# Altium schematic symbol library jlcpcb_2025_04_inductors_extended_1210.schlib: 422 symbols (part 2 of 8)
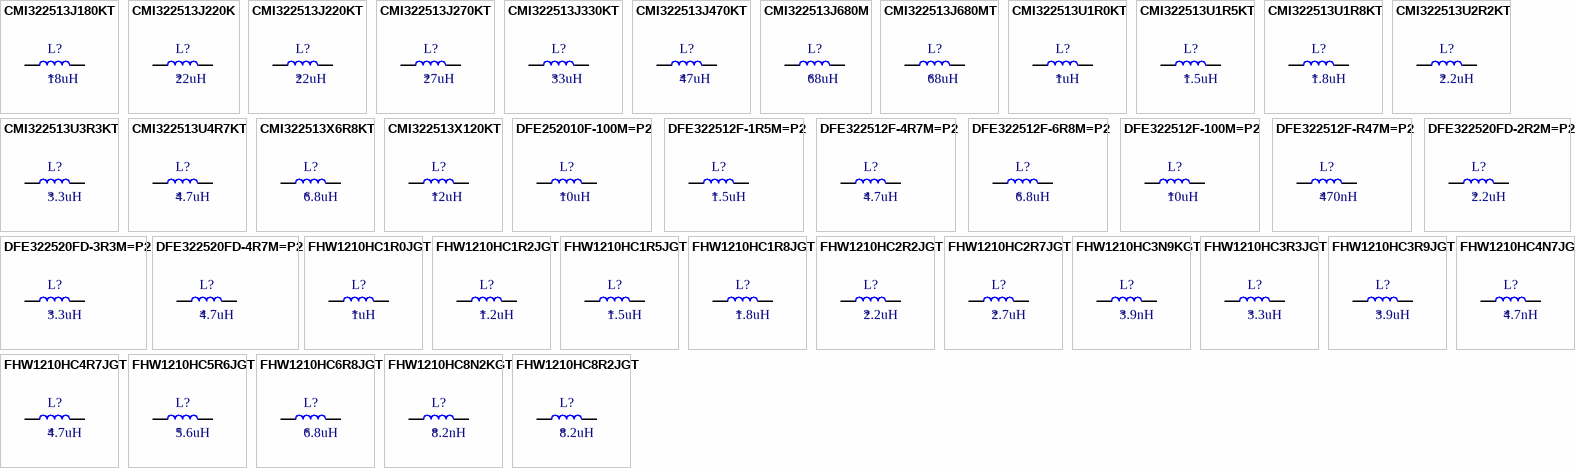
[diagram p11: symbols CMI322513J180KT to FHW1210HC8R2JGT]

## CMI322513X6R8KT
designator L?  Inductance: 6.8uH
Inductor, 6.8uH, ±10%, 600mΩ, 450mA, SMD 1210; Manufacturer: FH(Guangdong Fenghua Advanced Tech); Manufacturer Part Number: CMI322513X6R8KT; Self-Resonant Frequency: 20MHz; Q Factor: 35@4MHz; Package Size: 1210; JLCPCB Basic Part: No; JLCPCB Part Number: C394999; Supplier 1: LCSC; Category: Inductors; Supplier Part Number 1: C394999; Tolerance: ±10%; Rated Current: 450mA; DC Resistance: 600mΩ; RoHS: Yes; ComponentLink1Description: Datasheet; ComponentLink1URL: https://wmsc.lcsc.com/wmsc/upload/file/pdf/v2/lcsc/2302231030_FH--Guangdong-Fenghua-Advanced-Tech-CMI322513X6R8KT_C394999.pdf; ComponentLink2Description: JLCPCB Part URL; ComponentLink2URL: https://jlcpcb.com/partdetail/C394999; ComponentLink3Description: LCSC Part URL; ComponentLink3URL: https://lcsc.com/product-detail/Inductors-SMD_FH-Guangdong-Fenghua-Advanced-Tech-FH-Guangdong-Fenghua-Advanced-Tech-CMI322513X6R8KT_C394999.html
footprint IND-1210 (1210 (3225M) Inductor)
pins: 1, 2

## CMI322513X120KT
designator L?  Inductance: 12uH
Inductor, 12uH, ±10%, SMD 1210; Manufacturer: FH(Guangdong Fenghua Advanced Tech); Manufacturer Part Number: CMI322513X120KT; Package Size: 1210; JLCPCB Basic Part: No; JLCPCB Part Number: C394998; Supplier 1: LCSC; Category: Inductors; Supplier Part Number 1: C394998; Tolerance: ±10%; RoHS: Yes; ComponentLink1Description: Datasheet; ComponentLink1URL: https://wmsc.lcsc.com/wmsc/upload/file/pdf/v2/lcsc/2302231030_FH--Guangdong-Fenghua-Advanced-Tech-CMI322513X120KT_C394998.pdf; ComponentLink2Description: JLCPCB Part URL; ComponentLink2URL: https://jlcpcb.com/partdetail/C394998; ComponentLink3Description: LCSC Part URL; ComponentLink3URL: https://lcsc.com/product-detail/Inductors-SMD_FH-Guangdong-Fenghua-Advanced-Tech-FH-Guangdong-Fenghua-Advanced-Tech-CMI322513X120KT_C394998.html
footprint IND-1210 (1210 (3225M) Inductor)
pins: 1, 2

## DFE252010F-100M=P2
designator L?  Inductance: 10uH
Inductor, 10uH, ±20%, 600mΩ, 900mA, SMD 1210; Manufacturer: Murata Electronics; Manufacturer Part Number: DFE252010F-100M=P2; Saturation Current: 1.5A; Package Size: 1210; JLCPCB Basic Part: No; JLCPCB Part Number: C701155; Supplier 1: LCSC; Category: Inductors; Supplier Part Number 1: C701155; Tolerance: ±20%; Rated Current: 900mA; DC Resistance: 600mΩ; RoHS: Yes; ComponentLink1Description: Datasheet; ComponentLink1URL: https://wmsc.lcsc.com/wmsc/upload/file/pdf/v2/lcsc/2105241334_Murata-Electronics-DFE252010F-100M-P2_C701155.pdf; ComponentLink2Description: JLCPCB Part URL; ComponentLink2URL: https://jlcpcb.com/partdetail/C701155; ComponentLink3Description: LCSC Part URL; ComponentLink3URL: https://lcsc.com/product-detail/Inductors-SMD_Murata-Electronics-Murata-Electronics-DFE252010F-100M%3DP2_C701155.html
footprint IND-1210 (1210 (3225M) Inductor)
pins: 1, 2

## DFE322512F-1R5M=P2
designator L?  Inductance: 1.5uH
Inductor, 1.5uH, ±20%, 48mΩ, 3A, SMD 1210; Manufacturer: Murata Electronics; Manufacturer Part Number: DFE322512F-1R5M=P2; Saturation Current: 3.9A; Package Size: 1210; JLCPCB Basic Part: No; JLCPCB Part Number: C703084; Supplier 1: LCSC; Category: Inductors; Supplier Part Number 1: C703084; Tolerance: ±20%; Rated Current: 3A; DC Resistance: 48mΩ; RoHS: Yes; ComponentLink1Description: Datasheet; ComponentLink1URL: https://wmsc.lcsc.com/wmsc/upload/file/pdf/v2/lcsc/2308111612_Murata-Electronics-DFE322512F-1R5M-P2_C703084.pdf; ComponentLink2Description: JLCPCB Part URL; ComponentLink2URL: https://jlcpcb.com/partdetail/C703084; ComponentLink3Description: LCSC Part URL; ComponentLink3URL: https://lcsc.com/product-detail/Power-Inductors_Murata-Electronics-Murata-Electronics-DFE322512F-1R5M%3DP2_C703084.html
footprint IND-1210 (1210 (3225M) Inductor)
pins: 1, 2

## DFE322512F-4R7M=P2
designator L?  Inductance: 4.7uH
Inductor, 4.7uH, ±20%, 157mΩ, 1.6A, SMD 1210; Manufacturer: Murata Electronics; Manufacturer Part Number: DFE322512F-4R7M=P2; Saturation Current: 2.3A; Package Size: 1210; JLCPCB Basic Part: No; JLCPCB Part Number: C703083; Supplier 1: LCSC; Category: Inductors; Supplier Part Number 1: C703083; Tolerance: ±20%; Rated Current: 1.6A; DC Resistance: 157mΩ; RoHS: Yes; ComponentLink1Description: Datasheet; ComponentLink1URL: https://wmsc.lcsc.com/wmsc/upload/file/pdf/v2/lcsc/2308111612_Murata-Electronics-DFE322512F-4R7M-P2_C703083.pdf; ComponentLink2Description: JLCPCB Part URL; ComponentLink2URL: https://jlcpcb.com/partdetail/C703083; ComponentLink3Description: LCSC Part URL; ComponentLink3URL: https://lcsc.com/product-detail/Inductors-SMD_Murata-Electronics-Murata-Electronics-DFE322512F-4R7M%3DP2_C703083.html
footprint IND-1210 (1210 (3225M) Inductor)
pins: 1, 2

## DFE322512F-6R8M=P2
designator L?  Inductance: 6.8uH
Inductor, 6.8uH, ±20%, 220mΩ, 1.2A, SMD 1210; Manufacturer: Murata Electronics; Manufacturer Part Number: DFE322512F-6R8M=P2; Package Size: 1210; JLCPCB Basic Part: No; JLCPCB Part Number: C560045; Supplier 1: LCSC; Category: Inductors; Supplier Part Number 1: C560045; Tolerance: ±20%; Rated Current: 1.2A; DC Resistance: 220mΩ; RoHS: Yes; ComponentLink1Description: Datasheet; ComponentLink1URL: https://wmsc.lcsc.com/wmsc/upload/file/pdf/v2/lcsc/2304140030_Murata-Electronics-DFE322512F-6R8M-P2_C560045.pdf; ComponentLink2Description: JLCPCB Part URL; ComponentLink2URL: https://jlcpcb.com/partdetail/C560045; ComponentLink3Description: LCSC Part URL; ComponentLink3URL: https://lcsc.com/product-detail/Inductors-SMD_Murata-Electronics-Murata-Electronics-DFE322512F-6R8M%3DP2_C560045.html
footprint IND-1210 (1210 (3225M) Inductor)
pins: 1, 2

## DFE322512F-100M=P2
designator L?  Inductance: 10uH
Inductor, 10uH, ±20%, 324mΩ, 1.1A, SMD 1210; Manufacturer: Murata Electronics; Manufacturer Part Number: DFE322512F-100M=P2; Package Size: 1210; JLCPCB Basic Part: No; JLCPCB Part Number: C1333678; Supplier 1: LCSC; Category: Inductors; Supplier Part Number 1: C1333678; Tolerance: ±20%; Rated Current: 1.1A; DC Resistance: 324mΩ; RoHS: Yes; ComponentLink1Description: Datasheet; ComponentLink1URL: https://wmsc.lcsc.com/wmsc/upload/file/pdf/v2/lcsc/2304140030_Murata-Electronics-DFE322512F-100M-P2_C1333678.pdf; ComponentLink2Description: JLCPCB Part URL; ComponentLink2URL: https://jlcpcb.com/partdetail/C1333678; ComponentLink3Description: LCSC Part URL; ComponentLink3URL: https://lcsc.com/product-detail/Inductors-SMD_Murata-Electronics-Murata-Electronics-DFE322512F-100M%3DP2_C1333678.html
footprint IND-1210 (1210 (3225M) Inductor)
pins: 1, 2

## DFE322512F-R47M=P2
designator L?  Inductance: 470nH
Inductor, 470nH, ±20%, 23mΩ, 4.8A, SMD 1210; Manufacturer: Murata Electronics; Manufacturer Part Number: DFE322512F-R47M=P2; Package Size: 1210; JLCPCB Basic Part: No; JLCPCB Part Number: C1333683; Supplier 1: LCSC; Category: Inductors; Supplier Part Number 1: C1333683; Tolerance: ±20%; Rated Current: 4.8A; DC Resistance: 23mΩ; RoHS: Yes; ComponentLink1Description: Datasheet; ComponentLink1URL: https://wmsc.lcsc.com/wmsc/upload/file/pdf/v2/lcsc/2304140030_Murata-Electronics-DFE322512F-R47M-P2_C1333683.pdf; ComponentLink2Description: JLCPCB Part URL; ComponentLink2URL: https://jlcpcb.com/partdetail/C1333683; ComponentLink3Description: LCSC Part URL; ComponentLink3URL: https://lcsc.com/product-detail/Inductors-SMD_Murata-Electronics-Murata-Electronics-DFE322512F-R47M%3DP2_C1333683.html
footprint IND-1210 (1210 (3225M) Inductor)
pins: 1, 2

## DFE322520FD-2R2M=P2
designator L?  Inductance: 2.2uH
Inductor, 2.2uH, ±20%, 2.9A, SMD 1210; Manufacturer: Murata Electronics; Manufacturer Part Number: DFE322520FD-2R2M=P2; Saturation Current: 5A; Package Size: 1210; JLCPCB Basic Part: No; JLCPCB Part Number: C2045365; Supplier 1: LCSC; Category: Inductors; Supplier Part Number 1: C2045365; Tolerance: ±20%; Rated Current: 2.9A; RoHS: Yes; ComponentLink1Description: Datasheet; ComponentLink1URL: https://wmsc.lcsc.com/wmsc/upload/file/pdf/v2/lcsc/2401270505_Murata-Electronics-DFE322520FD-2R2M-P2_C2045365.pdf; ComponentLink2Description: JLCPCB Part URL; ComponentLink2URL: https://jlcpcb.com/partdetail/C2045365; ComponentLink3Description: LCSC Part URL; ComponentLink3URL: https://lcsc.com/product-detail/Inductors-SMD_Murata-Electronics-Murata-Electronics-DFE322520FD-2R2M%3DP2_C2045365.html
footprint IND-1210 (1210 (3225M) Inductor)
pins: 1, 2

## DFE322520FD-3R3M=P2
designator L?  Inductance: 3.3uH
Inductor, 3.3uH, ±20%, 2.3A, SMD 1210; Manufacturer: Murata Electronics; Manufacturer Part Number: DFE322520FD-3R3M=P2; Saturation Current: 4.2A; Package Size: 1210; JLCPCB Basic Part: No; JLCPCB Part Number: C2046640; Supplier 1: LCSC; Category: Inductors; Supplier Part Number 1: C2046640; Tolerance: ±20%; Rated Current: 2.3A; RoHS: Yes; ComponentLink1Description: Datasheet; ComponentLink1URL: https://wmsc.lcsc.com/wmsc/upload/file/pdf/v2/lcsc/2401270505_Murata-Electronics-DFE322520FD-3R3M-P2_C2046640.pdf; ComponentLink2Description: JLCPCB Part URL; ComponentLink2URL: https://jlcpcb.com/partdetail/C2046640; ComponentLink3Description: LCSC Part URL; ComponentLink3URL: https://lcsc.com/product-detail/Inductors-SMD_Murata-Electronics-Murata-Electronics-DFE322520FD-3R3M%3DP2_C2046640.html
footprint IND-1210 (1210 (3225M) Inductor)
pins: 1, 2

## DFE322520FD-4R7M=P2
designator L?  Inductance: 4.7uH
Inductor, 4.7uH, ±20%, 2A, SMD 1210; Manufacturer: Murata Electronics; Manufacturer Part Number: DFE322520FD-4R7M=P2; Saturation Current: 3.4A; Package Size: 1210; JLCPCB Basic Part: No; JLCPCB Part Number: C2045343; Supplier 1: LCSC; Category: Inductors; Supplier Part Number 1: C2045343; Tolerance: ±20%; Rated Current: 2A; RoHS: Yes; ComponentLink1Description: Datasheet; ComponentLink1URL: https://wmsc.lcsc.com/wmsc/upload/file/pdf/v2/lcsc/2308111715_Murata-Electronics-DFE322520FD-4R7M-P2_C2045343.pdf; ComponentLink2Description: JLCPCB Part URL; ComponentLink2URL: https://jlcpcb.com/partdetail/C2045343; ComponentLink3Description: LCSC Part URL; ComponentLink3URL: https://lcsc.com/product-detail/Inductors-SMD_Murata-Electronics-Murata-Electronics-DFE322520FD-4R7M%3DP2_C2045343.html
footprint IND-1210 (1210 (3225M) Inductor)
pins: 1, 2

## FHW1210HC1R0JGT
designator L?  Inductance: 1uH
Inductor, 1uH, ±5%, 1.85Ω, 320mA, SMD 1210; Manufacturer: FH(Guangdong Fenghua Advanced Tech); Manufacturer Part Number: FHW1210HC1R0JGT; Self-Resonant Frequency: 340MHz; Q Factor: 45@150MHz; Package Size: 1210; JLCPCB Basic Part: No; JLCPCB Part Number: C318051; Supplier 1: LCSC; Category: Inductors; Supplier Part Number 1: C318051; Tolerance: ±5%; Rated Current: 320mA; DC Resistance: 1.85Ω; RoHS: Yes; ComponentLink1Description: Datasheet; ComponentLink1URL: https://wmsc.lcsc.com/wmsc/upload/file/pdf/v2/lcsc/2302231208_FH--Guangdong-Fenghua-Advanced-Tech-FHW1210HC1R0JGT_C318051.pdf; ComponentLink2Description: JLCPCB Part URL; ComponentLink2URL: https://jlcpcb.com/partdetail/C318051; ComponentLink3Description: LCSC Part URL; ComponentLink3URL: https://lcsc.com/product-detail/Inductors-SMD_FH-Guangdong-Fenghua-Advanced-Tech-FH-Guangdong-Fenghua-Advanced-Tech-FHW1210HC1R0JGT_C318051.html
footprint IND-1210 (1210 (3225M) Inductor)
pins: 1, 2

## FHW1210HC1R2JGT
designator L?  Inductance: 1.2uH
Inductor, 1.2uH, ±5%, 1.87Ω, 300mA, SMD 1210; Manufacturer: FH(Guangdong Fenghua Advanced Tech); Manufacturer Part Number: FHW1210HC1R2JGT; Self-Resonant Frequency: 220MHz; Q Factor: 35@150MHz; Package Size: 1210; JLCPCB Basic Part: No; JLCPCB Part Number: C318052; Supplier 1: LCSC; Category: Inductors; Supplier Part Number 1: C318052; Tolerance: ±5%; Rated Current: 300mA; DC Resistance: 1.87Ω; RoHS: Yes; ComponentLink1Description: Datasheet; ComponentLink1URL: https://wmsc.lcsc.com/wmsc/upload/file/pdf/v2/lcsc/2302231208_FH--Guangdong-Fenghua-Advanced-Tech-FHW1210HC1R2JGT_C318052.pdf; ComponentLink2Description: JLCPCB Part URL; ComponentLink2URL: https://jlcpcb.com/partdetail/C318052; ComponentLink3Description: LCSC Part URL; ComponentLink3URL: https://lcsc.com/product-detail/Inductors-SMD_FH-Guangdong-Fenghua-Advanced-Tech-FH-Guangdong-Fenghua-Advanced-Tech-FHW1210HC1R2JGT_C318052.html
footprint IND-1210 (1210 (3225M) Inductor)
pins: 1, 2

## FHW1210HC1R5JGT
designator L?  Inductance: 1.5uH
Inductor, 1.5uH, ±5%, 1.95Ω, 310mA, SMD 1210; Manufacturer: FH(Guangdong Fenghua Advanced Tech); Manufacturer Part Number: FHW1210HC1R5JGT; Self-Resonant Frequency: 160MHz; Q Factor: 30@50MHz; Package Size: 1210; JLCPCB Basic Part: No; JLCPCB Part Number: C318053; Supplier 1: LCSC; Category: Inductors; Supplier Part Number 1: C318053; Tolerance: ±5%; Rated Current: 310mA; DC Resistance: 1.95Ω; RoHS: Yes; ComponentLink1Description: Datasheet; ComponentLink1URL: https://wmsc.lcsc.com/wmsc/upload/file/pdf/v2/lcsc/2302231208_FH--Guangdong-Fenghua-Advanced-Tech-FHW1210HC1R5JGT_C318053.pdf; ComponentLink2Description: JLCPCB Part URL; ComponentLink2URL: https://jlcpcb.com/partdetail/C318053; ComponentLink3Description: LCSC Part URL; ComponentLink3URL: https://lcsc.com/product-detail/Inductors-SMD_FH-Guangdong-Fenghua-Advanced-Tech-FH-Guangdong-Fenghua-Advanced-Tech-FHW1210HC1R5JGT_C318053.html
footprint IND-1210 (1210 (3225M) Inductor)
pins: 1, 2

## FHW1210HC1R8JGT
designator L?  Inductance: 1.8uH
Inductor, 1.8uH, ±5%, 2.25Ω, 310mA, SMD 1210; Manufacturer: FH(Guangdong Fenghua Advanced Tech); Manufacturer Part Number: FHW1210HC1R8JGT; Self-Resonant Frequency: 160MHz; Q Factor: 30@50MHz; Package Size: 1210; JLCPCB Basic Part: No; JLCPCB Part Number: C318054; Supplier 1: LCSC; Category: Inductors; Supplier Part Number 1: C318054; Tolerance: ±5%; Rated Current: 310mA; DC Resistance: 2.25Ω; RoHS: Yes; ComponentLink1Description: Datasheet; ComponentLink1URL: https://wmsc.lcsc.com/wmsc/upload/file/pdf/v2/lcsc/2302231208_FH--Guangdong-Fenghua-Advanced-Tech-FHW1210HC1R8JGT_C318054.pdf; ComponentLink2Description: JLCPCB Part URL; ComponentLink2URL: https://jlcpcb.com/partdetail/C318054; ComponentLink3Description: LCSC Part URL; ComponentLink3URL: https://lcsc.com/product-detail/Inductors-SMD_FH-Guangdong-Fenghua-Advanced-Tech-FH-Guangdong-Fenghua-Advanced-Tech-FHW1210HC1R8JGT_C318054.html
footprint IND-1210 (1210 (3225M) Inductor)
pins: 1, 2

## FHW1210HC2R2JGT
designator L?  Inductance: 2.2uH
Inductor, 2.2uH, ±5%, 2.41Ω, 310mA, SMD 1210; Manufacturer: FH(Guangdong Fenghua Advanced Tech); Manufacturer Part Number: FHW1210HC2R2JGT; Self-Resonant Frequency: 110MHz; Q Factor: 30@50MHz; Package Size: 1210; JLCPCB Basic Part: No; JLCPCB Part Number: C318055; Supplier 1: LCSC; Category: Inductors; Supplier Part Number 1: C318055; Tolerance: ±5%; Rated Current: 310mA; DC Resistance: 2.41Ω; RoHS: Yes; ComponentLink1Description: Datasheet; ComponentLink1URL: https://wmsc.lcsc.com/wmsc/upload/file/pdf/v2/lcsc/2302231208_FH--Guangdong-Fenghua-Advanced-Tech-FHW1210HC2R2JGT_C318055.pdf; ComponentLink2Description: JLCPCB Part URL; ComponentLink2URL: https://jlcpcb.com/partdetail/C318055; ComponentLink3Description: LCSC Part URL; ComponentLink3URL: https://lcsc.com/product-detail/Inductors-SMD_FH-Guangdong-Fenghua-Advanced-Tech-FH-Guangdong-Fenghua-Advanced-Tech-FHW1210HC2R2JGT_C318055.html
footprint IND-1210 (1210 (3225M) Inductor)
pins: 1, 2

## FHW1210HC2R7JGT
designator L?  Inductance: 2.7uH
Inductor, 2.7uH, ±5%, 2.85Ω, 300mA, SMD 1210; Manufacturer: FH(Guangdong Fenghua Advanced Tech); Manufacturer Part Number: FHW1210HC2R7JGT; Self-Resonant Frequency: 100MHz; Q Factor: 25@25MHz; Package Size: 1210; JLCPCB Basic Part: No; JLCPCB Part Number: C318056; Supplier 1: LCSC; Category: Inductors; Supplier Part Number 1: C318056; Tolerance: ±5%; Rated Current: 300mA; DC Resistance: 2.85Ω; RoHS: Yes; ComponentLink1Description: Datasheet; ComponentLink1URL: https://wmsc.lcsc.com/wmsc/upload/file/pdf/v2/lcsc/2302231208_FH--Guangdong-Fenghua-Advanced-Tech-FHW1210HC2R7JGT_C318056.pdf; ComponentLink2Description: JLCPCB Part URL; ComponentLink2URL: https://jlcpcb.com/partdetail/C318056; ComponentLink3Description: LCSC Part URL; ComponentLink3URL: https://lcsc.com/product-detail/Inductors-SMD_FH-Guangdong-Fenghua-Advanced-Tech-FH-Guangdong-Fenghua-Advanced-Tech-FHW1210HC2R7JGT_C318056.html
footprint IND-1210 (1210 (3225M) Inductor)
pins: 1, 2

## FHW1210HC3N9KGT
designator L?  Inductance: 3.9nH
Inductor, 3.9nH, ±10%, 50mΩ, 1A, SMD 1210; Manufacturer: FH(Guangdong Fenghua Advanced Tech); Manufacturer Part Number: FHW1210HC3N9KGT; Self-Resonant Frequency: 6GHz; Q Factor: 30@300MHz; Package Size: 1210; JLCPCB Basic Part: No; JLCPCB Part Number: C318029; Supplier 1: LCSC; Category: Inductors; Supplier Part Number 1: C318029; Tolerance: ±10%; Rated Current: 1A; DC Resistance: 50mΩ; RoHS: Yes; ComponentLink1Description: Datasheet; ComponentLink1URL: https://wmsc.lcsc.com/wmsc/upload/file/pdf/v2/lcsc/2302231030_FH--Guangdong-Fenghua-Advanced-Tech-FHW1210HC3N9KGT_C318029.pdf; ComponentLink2Description: JLCPCB Part URL; ComponentLink2URL: https://jlcpcb.com/partdetail/C318029; ComponentLink3Description: LCSC Part URL; ComponentLink3URL: https://lcsc.com/product-detail/Inductors-SMD_FH-Guangdong-Fenghua-Advanced-Tech-FH-Guangdong-Fenghua-Advanced-Tech-FHW1210HC3N9KGT_C318029.html
footprint IND-1210 (1210 (3225M) Inductor)
pins: 1, 2

## FHW1210HC3R3JGT
designator L?  Inductance: 3.3uH
Inductor, 3.3uH, ±5%, 3.12Ω, 300mA, SMD 1210; Manufacturer: FH(Guangdong Fenghua Advanced Tech); Manufacturer Part Number: FHW1210HC3R3JGT; Self-Resonant Frequency: 85MHz; Q Factor: 20@25MHz; Package Size: 1210; JLCPCB Basic Part: No; JLCPCB Part Number: C318057; Supplier 1: LCSC; Category: Inductors; Supplier Part Number 1: C318057; Tolerance: ±5%; Rated Current: 300mA; DC Resistance: 3.12Ω; RoHS: Yes; ComponentLink1Description: Datasheet; ComponentLink1URL: https://wmsc.lcsc.com/wmsc/upload/file/pdf/v2/lcsc/2302231208_FH--Guangdong-Fenghua-Advanced-Tech-FHW1210HC3R3JGT_C318057.pdf; ComponentLink2Description: JLCPCB Part URL; ComponentLink2URL: https://jlcpcb.com/partdetail/C318057; ComponentLink3Description: LCSC Part URL; ComponentLink3URL: https://lcsc.com/product-detail/Inductors-SMD_FH-Guangdong-Fenghua-Advanced-Tech-FH-Guangdong-Fenghua-Advanced-Tech-FHW1210HC3R3JGT_C318057.html
footprint IND-1210 (1210 (3225M) Inductor)
pins: 1, 2

## FHW1210HC3R9JGT
designator L?  Inductance: 3.9uH
Inductor, 3.9uH, ±5%, 3.6Ω, 290mA, SMD 1210; Manufacturer: FH(Guangdong Fenghua Advanced Tech); Manufacturer Part Number: FHW1210HC3R9JGT; Self-Resonant Frequency: 80MHz; Q Factor: 20@25MHz; Package Size: 1210; JLCPCB Basic Part: No; JLCPCB Part Number: C318058; Supplier 1: LCSC; Category: Inductors; Supplier Part Number 1: C318058; Tolerance: ±5%; Rated Current: 290mA; DC Resistance: 3.6Ω; RoHS: Yes; ComponentLink1Description: Datasheet; ComponentLink1URL: https://wmsc.lcsc.com/wmsc/upload/file/pdf/v2/lcsc/2302231208_FH--Guangdong-Fenghua-Advanced-Tech-FHW1210HC3R9JGT_C318058.pdf; ComponentLink2Description: JLCPCB Part URL; ComponentLink2URL: https://jlcpcb.com/partdetail/C318058; ComponentLink3Description: LCSC Part URL; ComponentLink3URL: https://lcsc.com/product-detail/Inductors-SMD_FH-Guangdong-Fenghua-Advanced-Tech-FH-Guangdong-Fenghua-Advanced-Tech-FHW1210HC3R9JGT_C318058.html
footprint IND-1210 (1210 (3225M) Inductor)
pins: 1, 2

## FHW1210HC4N7JGT
designator L?  Inductance: 4.7nH
Inductor, 4.7nH, ±5%, 65mΩ, 1A, SMD 1210; Manufacturer: FH(Guangdong Fenghua Advanced Tech); Manufacturer Part Number: FHW1210HC4N7JGT; Self-Resonant Frequency: 5.8GHz; Q Factor: 30@300MHz; Package Size: 1210; JLCPCB Basic Part: No; JLCPCB Part Number: C318030; Supplier 1: LCSC; Category: Inductors; Supplier Part Number 1: C318030; Tolerance: ±5%; Rated Current: 1A; DC Resistance: 65mΩ; RoHS: Yes; ComponentLink1Description: Datasheet; ComponentLink1URL: https://wmsc.lcsc.com/wmsc/upload/file/pdf/v2/lcsc/2302231208_FH--Guangdong-Fenghua-Advanced-Tech-FHW1210HC4N7JGT_C318030.pdf; ComponentLink2Description: JLCPCB Part URL; ComponentLink2URL: https://jlcpcb.com/partdetail/C318030; ComponentLink3Description: LCSC Part URL; ComponentLink3URL: https://lcsc.com/product-detail/Inductors-SMD_FH-Guangdong-Fenghua-Advanced-Tech-FH-Guangdong-Fenghua-Advanced-Tech-FHW1210HC4N7JGT_C318030.html
footprint IND-1210 (1210 (3225M) Inductor)
pins: 1, 2

## FHW1210HC4R7JGT
designator L?  Inductance: 4.7uH
Inductor, 4.7uH, ±5%, 4Ω, 280mA, SMD 1210; Manufacturer: FH(Guangdong Fenghua Advanced Tech); Manufacturer Part Number: FHW1210HC4R7JGT; Self-Resonant Frequency: 60MHz; Q Factor: 16@25MHz; Package Size: 1210; JLCPCB Basic Part: No; JLCPCB Part Number: C318059; Supplier 1: LCSC; Category: Inductors; Supplier Part Number 1: C318059; Tolerance: ±5%; Rated Current: 280mA; DC Resistance: 4Ω; RoHS: Yes; ComponentLink1Description: Datasheet; ComponentLink1URL: https://wmsc.lcsc.com/wmsc/upload/file/pdf/v2/lcsc/2302231208_FH--Guangdong-Fenghua-Advanced-Tech-FHW1210HC4R7JGT_C318059.pdf; ComponentLink2Description: JLCPCB Part URL; ComponentLink2URL: https://jlcpcb.com/partdetail/C318059; ComponentLink3Description: LCSC Part URL; ComponentLink3URL: https://lcsc.com/product-detail/Inductors-SMD_FH-Guangdong-Fenghua-Advanced-Tech-FH-Guangdong-Fenghua-Advanced-Tech-FHW1210HC4R7JGT_C318059.html
footprint IND-1210 (1210 (3225M) Inductor)
pins: 1, 2

## FHW1210HC5R6JGT
designator L?  Inductance: 5.6uH
Inductor, 5.6uH, ±5%, 5Ω, 250mA, SMD 1210; Manufacturer: FH(Guangdong Fenghua Advanced Tech); Manufacturer Part Number: FHW1210HC5R6JGT; Self-Resonant Frequency: 60MHz; Q Factor: 20@7.9MHz; Package Size: 1210; JLCPCB Basic Part: No; JLCPCB Part Number: C318060; Supplier 1: LCSC; Category: Inductors; Supplier Part Number 1: C318060; Tolerance: ±5%; Rated Current: 250mA; DC Resistance: 5Ω; RoHS: Yes; ComponentLink1Description: Datasheet; ComponentLink1URL: https://wmsc.lcsc.com/wmsc/upload/file/pdf/v2/lcsc/2302231208_FH--Guangdong-Fenghua-Advanced-Tech-FHW1210HC5R6JGT_C318060.pdf; ComponentLink2Description: JLCPCB Part URL; ComponentLink2URL: https://jlcpcb.com/partdetail/C318060; ComponentLink3Description: LCSC Part URL; ComponentLink3URL: https://lcsc.com/product-detail/Inductors-SMD_FH-Guangdong-Fenghua-Advanced-Tech-FH-Guangdong-Fenghua-Advanced-Tech-FHW1210HC5R6JGT_C318060.html
footprint IND-1210 (1210 (3225M) Inductor)
pins: 1, 2

## FHW1210HC6R8JGT
designator L?  Inductance: 6.8uH
Inductor, 6.8uH, ±5%, 8Ω, 230mA, SMD 1210; Manufacturer: FH(Guangdong Fenghua Advanced Tech); Manufacturer Part Number: FHW1210HC6R8JGT; Self-Resonant Frequency: 55MHz; Q Factor: 20@7.9MHz; Package Size: 1210; JLCPCB Basic Part: No; JLCPCB Part Number: C318061; Supplier 1: LCSC; Category: Inductors; Supplier Part Number 1: C318061; Tolerance: ±5%; Rated Current: 230mA; DC Resistance: 8Ω; RoHS: Yes; ComponentLink1Description: Datasheet; ComponentLink1URL: https://wmsc.lcsc.com/wmsc/upload/file/pdf/v2/lcsc/2302231208_FH--Guangdong-Fenghua-Advanced-Tech-FHW1210HC6R8JGT_C318061.pdf; ComponentLink2Description: JLCPCB Part URL; ComponentLink2URL: https://jlcpcb.com/partdetail/C318061; ComponentLink3Description: LCSC Part URL; ComponentLink3URL: https://lcsc.com/product-detail/Inductors-SMD_FH-Guangdong-Fenghua-Advanced-Tech-FH-Guangdong-Fenghua-Advanced-Tech-FHW1210HC6R8JGT_C318061.html
footprint IND-1210 (1210 (3225M) Inductor)
pins: 1, 2

## FHW1210HC8N2KGT
designator L?  Inductance: 8.2nH
Inductor, 8.2nH, ±10%, 70mΩ, 1A, SMD 1210; Manufacturer: FH(Guangdong Fenghua Advanced Tech); Manufacturer Part Number: FHW1210HC8N2KGT; Self-Resonant Frequency: 5.5GHz; Q Factor: 30@300MHz; Package Size: 1210; JLCPCB Basic Part: No; JLCPCB Part Number: C318031; Supplier 1: LCSC; Category: Inductors; Supplier Part Number 1: C318031; Tolerance: ±10%; Rated Current: 1A; DC Resistance: 70mΩ; RoHS: Yes; ComponentLink1Description: Datasheet; ComponentLink1URL: https://wmsc.lcsc.com/wmsc/upload/file/pdf/v2/lcsc/2302231208_FH--Guangdong-Fenghua-Advanced-Tech-FHW1210HC8N2KGT_C318031.pdf; ComponentLink2Description: JLCPCB Part URL; ComponentLink2URL: https://jlcpcb.com/partdetail/C318031; ComponentLink3Description: LCSC Part URL; ComponentLink3URL: https://lcsc.com/product-detail/Inductors-SMD_FH-Guangdong-Fenghua-Advanced-Tech-FH-Guangdong-Fenghua-Advanced-Tech-FHW1210HC8N2KGT_C318031.html
footprint IND-1210 (1210 (3225M) Inductor)
pins: 1, 2

## FHW1210HC8R2JGT
designator L?  Inductance: 8.2uH
Inductor, 8.2uH, ±5%, 8.6Ω, 170mA, SMD 1210; Manufacturer: FH(Guangdong Fenghua Advanced Tech); Manufacturer Part Number: FHW1210HC8R2JGT; Self-Resonant Frequency: 50MHz; Q Factor: 20@7.9MHz; Package Size: 1210; JLCPCB Basic Part: No; JLCPCB Part Number: C318062; Supplier 1: LCSC; Category: Inductors; Supplier Part Number 1: C318062; Tolerance: ±5%; Rated Current: 170mA; DC Resistance: 8.6Ω; RoHS: Yes; ComponentLink1Description: Datasheet; ComponentLink1URL: https://wmsc.lcsc.com/wmsc/upload/file/pdf/v2/lcsc/2302231208_FH--Guangdong-Fenghua-Advanced-Tech-FHW1210HC8R2JGT_C318062.pdf; ComponentLink2Description: JLCPCB Part URL; ComponentLink2URL: https://jlcpcb.com/partdetail/C318062; ComponentLink3Description: LCSC Part URL; ComponentLink3URL: https://lcsc.com/product-detail/Inductors-SMD_FH-Guangdong-Fenghua-Advanced-Tech-FH-Guangdong-Fenghua-Advanced-Tech-FHW1210HC8R2JGT_C318062.html
footprint IND-1210 (1210 (3225M) Inductor)
pins: 1, 2

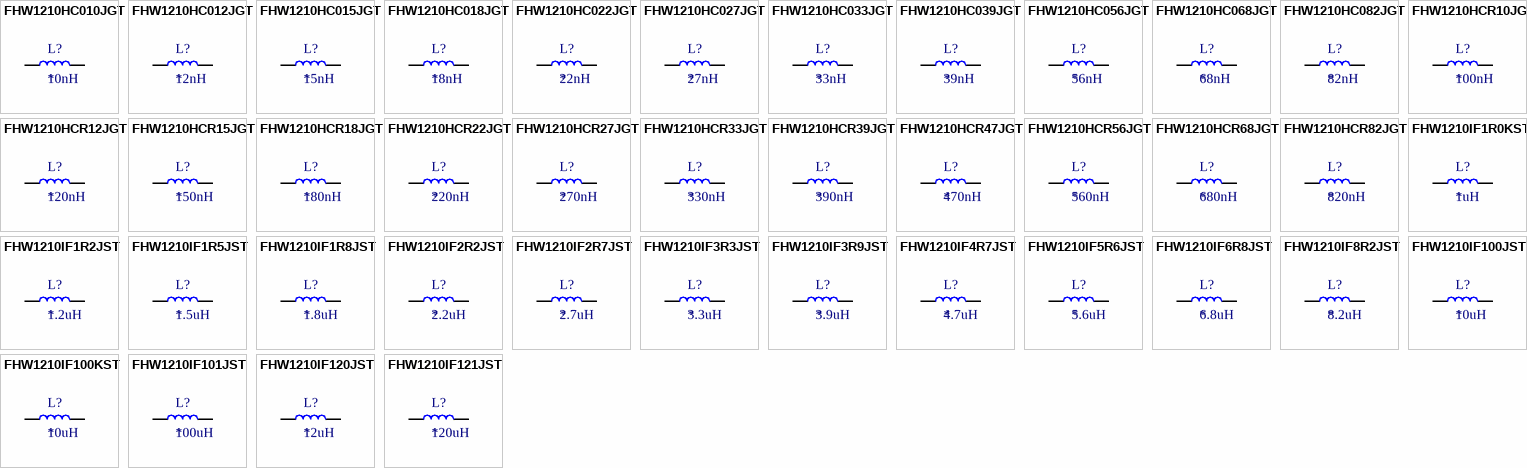
[diagram p2: symbols FHW1210HC010JGT to FHW1210IF121JST]

## FHW1210HC010JGT
designator L?  Inductance: 10nH
Inductor, 10nH, ±5%, 80mΩ, 1A, SMD 1210; Manufacturer: FH(Guangdong Fenghua Advanced Tech); Manufacturer Part Number: FHW1210HC010JGT; Self-Resonant Frequency: 4GHz; Q Factor: 40@300MHz; Package Size: 1210; JLCPCB Basic Part: No; JLCPCB Part Number: C318032; Supplier 1: LCSC; Category: Inductors; Supplier Part Number 1: C318032; Tolerance: ±5%; Rated Current: 1A; DC Resistance: 80mΩ; RoHS: Yes; ComponentLink1Description: Datasheet; ComponentLink1URL: https://wmsc.lcsc.com/wmsc/upload/file/pdf/v2/lcsc/2302231208_FH--Guangdong-Fenghua-Advanced-Tech-FHW1210HC010JGT_C318032.pdf; ComponentLink2Description: JLCPCB Part URL; ComponentLink2URL: https://jlcpcb.com/partdetail/C318032; ComponentLink3Description: LCSC Part URL; ComponentLink3URL: https://lcsc.com/product-detail/Inductors-SMD_FH-Guangdong-Fenghua-Advanced-Tech-FH-Guangdong-Fenghua-Advanced-Tech-FHW1210HC010JGT_C318032.html
footprint IND-1210 (1210 (3225M) Inductor)
pins: 1, 2

## FHW1210HC012JGT
designator L?  Inductance: 12nH
Inductor, 12nH, ±5%, 80mΩ, 1A, SMD 1210; Manufacturer: FH(Guangdong Fenghua Advanced Tech); Manufacturer Part Number: FHW1210HC012JGT; Self-Resonant Frequency: 3.2GHz; Q Factor: 40@300MHz; Package Size: 1210; JLCPCB Basic Part: No; JLCPCB Part Number: C318033; Supplier 1: LCSC; Category: Inductors; Supplier Part Number 1: C318033; Tolerance: ±5%; Rated Current: 1A; DC Resistance: 80mΩ; RoHS: Yes; ComponentLink1Description: Datasheet; ComponentLink1URL: https://wmsc.lcsc.com/wmsc/upload/file/pdf/v2/lcsc/2302231208_FH--Guangdong-Fenghua-Advanced-Tech-FHW1210HC012JGT_C318033.pdf; ComponentLink2Description: JLCPCB Part URL; ComponentLink2URL: https://jlcpcb.com/partdetail/C318033; ComponentLink3Description: LCSC Part URL; ComponentLink3URL: https://lcsc.com/product-detail/Inductors-SMD_FH-Guangdong-Fenghua-Advanced-Tech-FH-Guangdong-Fenghua-Advanced-Tech-FHW1210HC012JGT_C318033.html
footprint IND-1210 (1210 (3225M) Inductor)
pins: 1, 2

## FHW1210HC015JGT
designator L?  Inductance: 15nH
Inductor, 15nH, ±5%, 100mΩ, 1A, SMD 1210; Manufacturer: FH(Guangdong Fenghua Advanced Tech); Manufacturer Part Number: FHW1210HC015JGT; Self-Resonant Frequency: 3.2GHz; Q Factor: 40@300MHz; Package Size: 1210; JLCPCB Basic Part: No; JLCPCB Part Number: C318034; Supplier 1: LCSC; Category: Inductors; Supplier Part Number 1: C318034; Tolerance: ±5%; Rated Current: 1A; DC Resistance: 100mΩ; RoHS: Yes; ComponentLink1Description: Datasheet; ComponentLink1URL: https://wmsc.lcsc.com/wmsc/upload/file/pdf/v2/lcsc/2302231208_FH--Guangdong-Fenghua-Advanced-Tech-FHW1210HC015JGT_C318034.pdf; ComponentLink2Description: JLCPCB Part URL; ComponentLink2URL: https://jlcpcb.com/partdetail/C318034; ComponentLink3Description: LCSC Part URL; ComponentLink3URL: https://lcsc.com/product-detail/Inductors-SMD_FH-Guangdong-Fenghua-Advanced-Tech-FH-Guangdong-Fenghua-Advanced-Tech-FHW1210HC015JGT_C318034.html
footprint IND-1210 (1210 (3225M) Inductor)
pins: 1, 2

## FHW1210HC018JGT
designator L?  Inductance: 18nH
Inductor, 18nH, ±5%, 100mΩ, 1A, SMD 1210; Manufacturer: FH(Guangdong Fenghua Advanced Tech); Manufacturer Part Number: FHW1210HC018JGT; Self-Resonant Frequency: 2.8GHz; Q Factor: 50@300MHz; Package Size: 1210; JLCPCB Basic Part: No; JLCPCB Part Number: C318035; Supplier 1: LCSC; Category: Inductors; Supplier Part Number 1: C318035; Tolerance: ±5%; Rated Current: 1A; DC Resistance: 100mΩ; RoHS: Yes; ComponentLink1Description: Datasheet; ComponentLink1URL: https://wmsc.lcsc.com/wmsc/upload/file/pdf/v2/lcsc/2302231208_FH--Guangdong-Fenghua-Advanced-Tech-FHW1210HC018JGT_C318035.pdf; ComponentLink2Description: JLCPCB Part URL; ComponentLink2URL: https://jlcpcb.com/partdetail/C318035; ComponentLink3Description: LCSC Part URL; ComponentLink3URL: https://lcsc.com/product-detail/Inductors-SMD_FH-Guangdong-Fenghua-Advanced-Tech-FH-Guangdong-Fenghua-Advanced-Tech-FHW1210HC018JGT_C318035.html
footprint IND-1210 (1210 (3225M) Inductor)
pins: 1, 2

## FHW1210HC022JGT
designator L?  Inductance: 22nH
Inductor, 22nH, ±5%, 100mΩ, 1A, SMD 1210; Manufacturer: FH(Guangdong Fenghua Advanced Tech); Manufacturer Part Number: FHW1210HC022JGT; Self-Resonant Frequency: 2GHz; Q Factor: 50@300MHz; Package Size: 1210; JLCPCB Basic Part: No; JLCPCB Part Number: C75649; Supplier 1: LCSC; Category: Inductors; Supplier Part Number 1: C75649; Tolerance: ±5%; Rated Current: 1A; DC Resistance: 100mΩ; RoHS: Yes; ComponentLink1Description: Datasheet; ComponentLink1URL: https://wmsc.lcsc.com/wmsc/upload/file/pdf/v2/lcsc/2302231101_FH--Guangdong-Fenghua-Advanced-Tech-FHW1210HC022JGT_C75649.pdf; ComponentLink2Description: JLCPCB Part URL; ComponentLink2URL: https://jlcpcb.com/partdetail/C75649; ComponentLink3Description: LCSC Part URL; ComponentLink3URL: https://lcsc.com/product-detail/Inductors-SMD_FH-Guangdong-Fenghua-Advanced-Tech-FH-Guangdong-Fenghua-Advanced-Tech-FHW1210HC022JGT_C75649.html
footprint IND-1210 (1210 (3225M) Inductor)
pins: 1, 2

## FHW1210HC027JGT
designator L?  Inductance: 27nH
Inductor, 27nH, ±5%, 110mΩ, 1A, SMD 1210; Manufacturer: FH(Guangdong Fenghua Advanced Tech); Manufacturer Part Number: FHW1210HC027JGT; Self-Resonant Frequency: 1.8GHz; Q Factor: 50@300MHz; Package Size: 1210; JLCPCB Basic Part: No; JLCPCB Part Number: C318036; Supplier 1: LCSC; Category: Inductors; Supplier Part Number 1: C318036; Tolerance: ±5%; Rated Current: 1A; DC Resistance: 110mΩ; RoHS: Yes; ComponentLink1Description: Datasheet; ComponentLink1URL: https://wmsc.lcsc.com/wmsc/upload/file/pdf/v2/lcsc/2302231208_FH--Guangdong-Fenghua-Advanced-Tech-FHW1210HC027JGT_C318036.pdf; ComponentLink2Description: JLCPCB Part URL; ComponentLink2URL: https://jlcpcb.com/partdetail/C318036; ComponentLink3Description: LCSC Part URL; ComponentLink3URL: https://lcsc.com/product-detail/Inductors-SMD_FH-Guangdong-Fenghua-Advanced-Tech-FH-Guangdong-Fenghua-Advanced-Tech-FHW1210HC027JGT_C318036.html
footprint IND-1210 (1210 (3225M) Inductor)
pins: 1, 2

## FHW1210HC033JGT
designator L?  Inductance: 33nH
Inductor, 33nH, ±5%, 110mΩ, 1A, SMD 1210; Manufacturer: FH(Guangdong Fenghua Advanced Tech); Manufacturer Part Number: FHW1210HC033JGT; Self-Resonant Frequency: 1.8GHz; Q Factor: 55@300MHz; Package Size: 1210; JLCPCB Basic Part: No; JLCPCB Part Number: C304280; Supplier 1: LCSC; Category: Inductors; Supplier Part Number 1: C304280; Tolerance: ±5%; Rated Current: 1A; DC Resistance: 110mΩ; RoHS: Yes; ComponentLink1Description: Datasheet; ComponentLink1URL: https://wmsc.lcsc.com/wmsc/upload/file/pdf/v2/lcsc/2302231030_FH--Guangdong-Fenghua-Advanced-Tech-FHW1210HC033JGT_C304280.pdf; ComponentLink2Description: JLCPCB Part URL; ComponentLink2URL: https://jlcpcb.com/partdetail/C304280; ComponentLink3Description: LCSC Part URL; ComponentLink3URL: https://lcsc.com/product-detail/Inductors-SMD_FH-Guangdong-Fenghua-Advanced-Tech-FH-Guangdong-Fenghua-Advanced-Tech-FHW1210HC033JGT_C304280.html
footprint IND-1210 (1210 (3225M) Inductor)
pins: 1, 2

## FHW1210HC039JGT
designator L?  Inductance: 39nH
Inductor, 39nH, ±5%, 120mΩ, 1A, SMD 1210; Manufacturer: FH(Guangdong Fenghua Advanced Tech); Manufacturer Part Number: FHW1210HC039JGT; Self-Resonant Frequency: 1.8GHz; Q Factor: 55@300MHz; Package Size: 1210; JLCPCB Basic Part: No; JLCPCB Part Number: C318037; Supplier 1: LCSC; Category: Inductors; Supplier Part Number 1: C318037; Tolerance: ±5%; Rated Current: 1A; DC Resistance: 120mΩ; RoHS: Yes; ComponentLink1Description: Datasheet; ComponentLink1URL: https://wmsc.lcsc.com/wmsc/upload/file/pdf/v2/lcsc/2302231208_FH--Guangdong-Fenghua-Advanced-Tech-FHW1210HC039JGT_C318037.pdf; ComponentLink2Description: JLCPCB Part URL; ComponentLink2URL: https://jlcpcb.com/partdetail/C318037; ComponentLink3Description: LCSC Part URL; ComponentLink3URL: https://lcsc.com/product-detail/Inductors-SMD_FH-Guangdong-Fenghua-Advanced-Tech-FH-Guangdong-Fenghua-Advanced-Tech-FHW1210HC039JGT_C318037.html
footprint IND-1210 (1210 (3225M) Inductor)
pins: 1, 2

## FHW1210HC056JGT
designator L?  Inductance: 56nH
Inductor, 56nH, ±5%, 140mΩ, 1A, SMD 1210; Manufacturer: FH(Guangdong Fenghua Advanced Tech); Manufacturer Part Number: FHW1210HC056JGT; Self-Resonant Frequency: 1.45GHz; Q Factor: 55@300MHz; Package Size: 1210; JLCPCB Basic Part: No; JLCPCB Part Number: C318038; Supplier 1: LCSC; Category: Inductors; Supplier Part Number 1: C318038; Tolerance: ±5%; Rated Current: 1A; DC Resistance: 140mΩ; RoHS: Yes; ComponentLink1Description: Datasheet; ComponentLink1URL: https://wmsc.lcsc.com/wmsc/upload/file/pdf/v2/lcsc/2302231208_FH--Guangdong-Fenghua-Advanced-Tech-FHW1210HC056JGT_C318038.pdf; ComponentLink2Description: JLCPCB Part URL; ComponentLink2URL: https://jlcpcb.com/partdetail/C318038; ComponentLink3Description: LCSC Part URL; ComponentLink3URL: https://lcsc.com/product-detail/Inductors-SMD_FH-Guangdong-Fenghua-Advanced-Tech-FH-Guangdong-Fenghua-Advanced-Tech-FHW1210HC056JGT_C318038.html
footprint IND-1210 (1210 (3225M) Inductor)
pins: 1, 2

## FHW1210HC068JGT
designator L?  Inductance: 68nH
Inductor, 68nH, ±5%, 150mΩ, 900mA, SMD 1210; Manufacturer: FH(Guangdong Fenghua Advanced Tech); Manufacturer Part Number: FHW1210HC068JGT; Self-Resonant Frequency: 1.2GHz; Q Factor: 55@300MHz; Package Size: 1210; JLCPCB Basic Part: No; JLCPCB Part Number: C318039; Supplier 1: LCSC; Category: Inductors; Supplier Part Number 1: C318039; Tolerance: ±5%; Rated Current: 900mA; DC Resistance: 150mΩ; RoHS: Yes; ComponentLink1Description: Datasheet; ComponentLink1URL: https://wmsc.lcsc.com/wmsc/upload/file/pdf/v2/lcsc/2302231208_FH--Guangdong-Fenghua-Advanced-Tech-FHW1210HC068JGT_C318039.pdf; ComponentLink2Description: JLCPCB Part URL; ComponentLink2URL: https://jlcpcb.com/partdetail/C318039; ComponentLink3Description: LCSC Part URL; ComponentLink3URL: https://lcsc.com/product-detail/Inductors-SMD_FH-Guangdong-Fenghua-Advanced-Tech-FH-Guangdong-Fenghua-Advanced-Tech-FHW1210HC068JGT_C318039.html
footprint IND-1210 (1210 (3225M) Inductor)
pins: 1, 2

## FHW1210HC082JGT
designator L?  Inductance: 82nH
Inductor, 82nH, ±5%, 200mΩ, 900mA, SMD 1210; Manufacturer: FH(Guangdong Fenghua Advanced Tech); Manufacturer Part Number: FHW1210HC082JGT; Self-Resonant Frequency: 1GHz; Q Factor: 55@300MHz; Package Size: 1210; JLCPCB Basic Part: No; JLCPCB Part Number: C318040; Supplier 1: LCSC; Category: Inductors; Supplier Part Number 1: C318040; Tolerance: ±5%; Rated Current: 900mA; DC Resistance: 200mΩ; RoHS: Yes; ComponentLink1Description: Datasheet; ComponentLink1URL: https://wmsc.lcsc.com/wmsc/upload/file/pdf/v2/lcsc/2302231208_FH--Guangdong-Fenghua-Advanced-Tech-FHW1210HC082JGT_C318040.pdf; ComponentLink2Description: JLCPCB Part URL; ComponentLink2URL: https://jlcpcb.com/partdetail/C318040; ComponentLink3Description: LCSC Part URL; ComponentLink3URL: https://lcsc.com/product-detail/Inductors-SMD_FH-Guangdong-Fenghua-Advanced-Tech-FH-Guangdong-Fenghua-Advanced-Tech-FHW1210HC082JGT_C318040.html
footprint IND-1210 (1210 (3225M) Inductor)
pins: 1, 2

## FHW1210HCR10JGT
designator L?  Inductance: 100nH
Inductor, 100nH, ±5%, 210mΩ, 850mA, SMD 1210; Manufacturer: FH(Guangdong Fenghua Advanced Tech); Manufacturer Part Number: FHW1210HCR10JGT; Self-Resonant Frequency: 900MHz; Q Factor: 55@300MHz; Package Size: 1210; JLCPCB Basic Part: No; JLCPCB Part Number: C318041; Supplier 1: LCSC; Category: Inductors; Supplier Part Number 1: C318041; Tolerance: ±5%; Rated Current: 850mA; DC Resistance: 210mΩ; RoHS: Yes; ComponentLink1Description: Datasheet; ComponentLink1URL: https://wmsc.lcsc.com/wmsc/upload/file/pdf/v2/lcsc/2302231208_FH--Guangdong-Fenghua-Advanced-Tech-FHW1210HCR10JGT_C318041.pdf; ComponentLink2Description: JLCPCB Part URL; ComponentLink2URL: https://jlcpcb.com/partdetail/C318041; ComponentLink3Description: LCSC Part URL; ComponentLink3URL: https://lcsc.com/product-detail/Inductors-SMD_FH-Guangdong-Fenghua-Advanced-Tech-FH-Guangdong-Fenghua-Advanced-Tech-FHW1210HCR10JGT_C318041.html
footprint IND-1210 (1210 (3225M) Inductor)
pins: 1, 2

## FHW1210HCR12JGT
designator L?  Inductance: 120nH
Inductor, 120nH, ±5%, 210mΩ, 800mA, SMD 1210; Manufacturer: FH(Guangdong Fenghua Advanced Tech); Manufacturer Part Number: FHW1210HCR12JGT; Self-Resonant Frequency: 800MHz; Q Factor: 60@300MHz; Package Size: 1210; JLCPCB Basic Part: No; JLCPCB Part Number: C318042; Supplier 1: LCSC; Category: Inductors; Supplier Part Number 1: C318042; Tolerance: ±5%; Rated Current: 800mA; DC Resistance: 210mΩ; RoHS: Yes; ComponentLink1Description: Datasheet; ComponentLink1URL: https://wmsc.lcsc.com/wmsc/upload/file/pdf/v2/lcsc/2302231208_FH--Guangdong-Fenghua-Advanced-Tech-FHW1210HCR12JGT_C318042.pdf; ComponentLink2Description: JLCPCB Part URL; ComponentLink2URL: https://jlcpcb.com/partdetail/C318042; ComponentLink3Description: LCSC Part URL; ComponentLink3URL: https://lcsc.com/product-detail/Inductors-SMD_FH-Guangdong-Fenghua-Advanced-Tech-FH-Guangdong-Fenghua-Advanced-Tech-FHW1210HCR12JGT_C318042.html
footprint IND-1210 (1210 (3225M) Inductor)
pins: 1, 2

## FHW1210HCR15JGT
designator L?  Inductance: 150nH
Inductor, 150nH, ±5%, 250mΩ, 750mA, SMD 1210; Manufacturer: FH(Guangdong Fenghua Advanced Tech); Manufacturer Part Number: FHW1210HCR15JGT; Self-Resonant Frequency: 780MHz; Q Factor: 60@300MHz; Package Size: 1210; JLCPCB Basic Part: No; JLCPCB Part Number: C318043; Supplier 1: LCSC; Category: Inductors; Supplier Part Number 1: C318043; Tolerance: ±5%; Rated Current: 750mA; DC Resistance: 250mΩ; RoHS: Yes; ComponentLink1Description: Datasheet; ComponentLink1URL: https://wmsc.lcsc.com/wmsc/upload/file/pdf/v2/lcsc/2302231208_FH--Guangdong-Fenghua-Advanced-Tech-FHW1210HCR15JGT_C318043.pdf; ComponentLink2Description: JLCPCB Part URL; ComponentLink2URL: https://jlcpcb.com/partdetail/C318043; ComponentLink3Description: LCSC Part URL; ComponentLink3URL: https://lcsc.com/product-detail/Inductors-SMD_FH-Guangdong-Fenghua-Advanced-Tech-FH-Guangdong-Fenghua-Advanced-Tech-FHW1210HCR15JGT_C318043.html
footprint IND-1210 (1210 (3225M) Inductor)
pins: 1, 2

## FHW1210HCR18JGT
designator L?  Inductance: 180nH
Inductor, 180nH, ±5%, 300mΩ, 700mA, SMD 1210; Manufacturer: FH(Guangdong Fenghua Advanced Tech); Manufacturer Part Number: FHW1210HCR18JGT; Self-Resonant Frequency: 760MHz; Q Factor: 60@300MHz; Package Size: 1210; JLCPCB Basic Part: No; JLCPCB Part Number: C318044; Supplier 1: LCSC; Category: Inductors; Supplier Part Number 1: C318044; Tolerance: ±5%; Rated Current: 700mA; DC Resistance: 300mΩ; RoHS: Yes; ComponentLink1Description: Datasheet; ComponentLink1URL: https://wmsc.lcsc.com/wmsc/upload/file/pdf/v2/lcsc/2302231208_FH--Guangdong-Fenghua-Advanced-Tech-FHW1210HCR18JGT_C318044.pdf; ComponentLink2Description: JLCPCB Part URL; ComponentLink2URL: https://jlcpcb.com/partdetail/C318044; ComponentLink3Description: LCSC Part URL; ComponentLink3URL: https://lcsc.com/product-detail/Inductors-SMD_FH-Guangdong-Fenghua-Advanced-Tech-FH-Guangdong-Fenghua-Advanced-Tech-FHW1210HCR18JGT_C318044.html
footprint IND-1210 (1210 (3225M) Inductor)
pins: 1, 2

## FHW1210HCR22JGT
designator L?  Inductance: 220nH
Inductor, 220nH, ±5%, 320mΩ, 670mA, SMD 1210; Manufacturer: FH(Guangdong Fenghua Advanced Tech); Manufacturer Part Number: FHW1210HCR22JGT; Self-Resonant Frequency: 650MHz; Q Factor: 60@300MHz; Package Size: 1210; JLCPCB Basic Part: No; JLCPCB Part Number: C318045; Supplier 1: LCSC; Category: Inductors; Supplier Part Number 1: C318045; Tolerance: ±5%; Rated Current: 670mA; DC Resistance: 320mΩ; RoHS: Yes; ComponentLink1Description: Datasheet; ComponentLink1URL: https://wmsc.lcsc.com/wmsc/upload/file/pdf/v2/lcsc/2302231208_FH--Guangdong-Fenghua-Advanced-Tech-FHW1210HCR22JGT_C318045.pdf; ComponentLink2Description: JLCPCB Part URL; ComponentLink2URL: https://jlcpcb.com/partdetail/C318045; ComponentLink3Description: LCSC Part URL; ComponentLink3URL: https://lcsc.com/product-detail/Inductors-SMD_FH-Guangdong-Fenghua-Advanced-Tech-FH-Guangdong-Fenghua-Advanced-Tech-FHW1210HCR22JGT_C318045.html
footprint IND-1210 (1210 (3225M) Inductor)
pins: 1, 2

## FHW1210HCR27JGT
designator L?  Inductance: 270nH
Inductor, 270nH, ±5%, 340mΩ, 630mA, SMD 1210; Manufacturer: FH(Guangdong Fenghua Advanced Tech); Manufacturer Part Number: FHW1210HCR27JGT; Self-Resonant Frequency: 620MHz; Q Factor: 55@300MHz; Package Size: 1210; JLCPCB Basic Part: No; JLCPCB Part Number: C318046; Supplier 1: LCSC; Category: Inductors; Supplier Part Number 1: C318046; Tolerance: ±5%; Rated Current: 630mA; DC Resistance: 340mΩ; RoHS: Yes; ComponentLink1Description: Datasheet; ComponentLink1URL: https://wmsc.lcsc.com/wmsc/upload/file/pdf/v2/lcsc/2302231208_FH--Guangdong-Fenghua-Advanced-Tech-FHW1210HCR27JGT_C318046.pdf; ComponentLink2Description: JLCPCB Part URL; ComponentLink2URL: https://jlcpcb.com/partdetail/C318046; ComponentLink3Description: LCSC Part URL; ComponentLink3URL: https://lcsc.com/product-detail/Inductors-SMD_FH-Guangdong-Fenghua-Advanced-Tech-FH-Guangdong-Fenghua-Advanced-Tech-FHW1210HCR27JGT_C318046.html
footprint IND-1210 (1210 (3225M) Inductor)
pins: 1, 2

## FHW1210HCR33JGT
designator L?  Inductance: 330nH
Inductor, 330nH, ±5%, 380mΩ, 590mA, SMD 1210; Manufacturer: FH(Guangdong Fenghua Advanced Tech); Manufacturer Part Number: FHW1210HCR33JGT; Self-Resonant Frequency: 600MHz; Q Factor: 45@150MHz; Package Size: 1210; JLCPCB Basic Part: No; JLCPCB Part Number: C75650; Supplier 1: LCSC; Category: Inductors; Supplier Part Number 1: C75650; Tolerance: ±5%; Rated Current: 590mA; DC Resistance: 380mΩ; RoHS: Yes; ComponentLink1Description: Datasheet; ComponentLink1URL: https://wmsc.lcsc.com/wmsc/upload/file/pdf/v2/lcsc/2302231101_FH--Guangdong-Fenghua-Advanced-Tech-FHW1210HCR33JGT_C75650.pdf; ComponentLink2Description: JLCPCB Part URL; ComponentLink2URL: https://jlcpcb.com/partdetail/C75650; ComponentLink3Description: LCSC Part URL; ComponentLink3URL: https://lcsc.com/product-detail/Inductors-SMD_FH-Guangdong-Fenghua-Advanced-Tech-FH-Guangdong-Fenghua-Advanced-Tech-FHW1210HCR33JGT_C75650.html
footprint IND-1210 (1210 (3225M) Inductor)
pins: 1, 2

## FHW1210HCR39JGT
designator L?  Inductance: 390nH
Inductor, 390nH, ±5%, 580mΩ, 530mA, SMD 1210; Manufacturer: FH(Guangdong Fenghua Advanced Tech); Manufacturer Part Number: FHW1210HCR39JGT; Self-Resonant Frequency: 510MHz; Q Factor: 45@150MHz; Package Size: 1210; JLCPCB Basic Part: No; JLCPCB Part Number: C318047; Supplier 1: LCSC; Category: Inductors; Supplier Part Number 1: C318047; Tolerance: ±5%; Rated Current: 530mA; DC Resistance: 580mΩ; RoHS: Yes; ComponentLink1Description: Datasheet; ComponentLink1URL: https://wmsc.lcsc.com/wmsc/upload/file/pdf/v2/lcsc/2302231208_FH--Guangdong-Fenghua-Advanced-Tech-FHW1210HCR39JGT_C318047.pdf; ComponentLink2Description: JLCPCB Part URL; ComponentLink2URL: https://jlcpcb.com/partdetail/C318047; ComponentLink3Description: LCSC Part URL; ComponentLink3URL: https://lcsc.com/product-detail/Inductors-SMD_FH-Guangdong-Fenghua-Advanced-Tech-FH-Guangdong-Fenghua-Advanced-Tech-FHW1210HCR39JGT_C318047.html
footprint IND-1210 (1210 (3225M) Inductor)
pins: 1, 2

## FHW1210HCR47JGT
designator L?  Inductance: 470nH
Inductor, 470nH, ±5%, 800mΩ, 490mA, SMD 1210; Manufacturer: FH(Guangdong Fenghua Advanced Tech); Manufacturer Part Number: FHW1210HCR47JGT; Self-Resonant Frequency: 500MHz; Q Factor: 45@150MHz; Package Size: 1210; JLCPCB Basic Part: No; JLCPCB Part Number: C318048; Supplier 1: LCSC; Category: Inductors; Supplier Part Number 1: C318048; Tolerance: ±5%; Rated Current: 490mA; DC Resistance: 800mΩ; RoHS: Yes; ComponentLink1Description: Datasheet; ComponentLink1URL: https://wmsc.lcsc.com/wmsc/upload/file/pdf/v2/lcsc/2302231208_FH--Guangdong-Fenghua-Advanced-Tech-FHW1210HCR47JGT_C318048.pdf; ComponentLink2Description: JLCPCB Part URL; ComponentLink2URL: https://jlcpcb.com/partdetail/C318048; ComponentLink3Description: LCSC Part URL; ComponentLink3URL: https://lcsc.com/product-detail/Inductors-SMD_FH-Guangdong-Fenghua-Advanced-Tech-FH-Guangdong-Fenghua-Advanced-Tech-FHW1210HCR47JGT_C318048.html
footprint IND-1210 (1210 (3225M) Inductor)
pins: 1, 2

## FHW1210HCR56JGT
designator L?  Inductance: 560nH
Inductor, 560nH, ±5%, 1.1Ω, 460mA, SMD 1210; Manufacturer: FH(Guangdong Fenghua Advanced Tech); Manufacturer Part Number: FHW1210HCR56JGT; Self-Resonant Frequency: 420MHz; Q Factor: 45@150MHz; Package Size: 1210; JLCPCB Basic Part: No; JLCPCB Part Number: C318049; Supplier 1: LCSC; Category: Inductors; Supplier Part Number 1: C318049; Tolerance: ±5%; Rated Current: 460mA; DC Resistance: 1.1Ω; RoHS: Yes; ComponentLink1Description: Datasheet; ComponentLink1URL: https://wmsc.lcsc.com/wmsc/upload/file/pdf/v2/lcsc/2302231208_FH--Guangdong-Fenghua-Advanced-Tech-FHW1210HCR56JGT_C318049.pdf; ComponentLink2Description: JLCPCB Part URL; ComponentLink2URL: https://jlcpcb.com/partdetail/C318049; ComponentLink3Description: LCSC Part URL; ComponentLink3URL: https://lcsc.com/product-detail/Inductors-SMD_FH-Guangdong-Fenghua-Advanced-Tech-FH-Guangdong-Fenghua-Advanced-Tech-FHW1210HCR56JGT_C318049.html
footprint IND-1210 (1210 (3225M) Inductor)
pins: 1, 2

## FHW1210HCR68JGT
designator L?  Inductance: 680nH
Inductor, 680nH, ±5%, 1.2Ω, 430mA, SMD 1210; Manufacturer: FH(Guangdong Fenghua Advanced Tech); Manufacturer Part Number: FHW1210HCR68JGT; Self-Resonant Frequency: 400MHz; Q Factor: 45@150MHz; Package Size: 1210; JLCPCB Basic Part: No; JLCPCB Part Number: C75648; Supplier 1: LCSC; Category: Inductors; Supplier Part Number 1: C75648; Tolerance: ±5%; Rated Current: 430mA; DC Resistance: 1.2Ω; RoHS: Yes; ComponentLink1Description: Datasheet; ComponentLink1URL: https://wmsc.lcsc.com/wmsc/upload/file/pdf/v2/lcsc/2302231101_FH--Guangdong-Fenghua-Advanced-Tech-FHW1210HCR68JGT_C75648.pdf; ComponentLink2Description: JLCPCB Part URL; ComponentLink2URL: https://jlcpcb.com/partdetail/C75648; ComponentLink3Description: LCSC Part URL; ComponentLink3URL: https://lcsc.com/product-detail/Inductors-SMD_FH-Guangdong-Fenghua-Advanced-Tech-FH-Guangdong-Fenghua-Advanced-Tech-FHW1210HCR68JGT_C75648.html
footprint IND-1210 (1210 (3225M) Inductor)
pins: 1, 2

## FHW1210HCR82JGT
designator L?  Inductance: 820nH
Inductor, 820nH, ±5%, 1.82Ω, 400mA, SMD 1210; Manufacturer: FH(Guangdong Fenghua Advanced Tech); Manufacturer Part Number: FHW1210HCR82JGT; Self-Resonant Frequency: 370MHz; Q Factor: 45@150MHz; Package Size: 1210; JLCPCB Basic Part: No; JLCPCB Part Number: C318050; Supplier 1: LCSC; Category: Inductors; Supplier Part Number 1: C318050; Tolerance: ±5%; Rated Current: 400mA; DC Resistance: 1.82Ω; RoHS: Yes; ComponentLink1Description: Datasheet; ComponentLink1URL: https://wmsc.lcsc.com/wmsc/upload/file/pdf/v2/lcsc/2302231208_FH--Guangdong-Fenghua-Advanced-Tech-FHW1210HCR82JGT_C318050.pdf; ComponentLink2Description: JLCPCB Part URL; ComponentLink2URL: https://jlcpcb.com/partdetail/C318050; ComponentLink3Description: LCSC Part URL; ComponentLink3URL: https://lcsc.com/product-detail/Inductors-SMD_FH-Guangdong-Fenghua-Advanced-Tech-FH-Guangdong-Fenghua-Advanced-Tech-FHW1210HCR82JGT_C318050.html
footprint IND-1210 (1210 (3225M) Inductor)
pins: 1, 2

## FHW1210IF1R0KST
designator L?  Inductance: 1uH
Inductor, 1uH, ±10%, 300mΩ, 450mA, SMD 1210; Manufacturer: FH(Guangdong Fenghua Advanced Tech); Manufacturer Part Number: FHW1210IF1R0KST; Package Size: 1210; JLCPCB Basic Part: No; JLCPCB Part Number: C351247; Supplier 1: LCSC; Category: Inductors; Supplier Part Number 1: C351247; Tolerance: ±10%; Rated Current: 450mA; DC Resistance: 300mΩ; RoHS: Yes; ComponentLink1Description: Datasheet; ComponentLink1URL: https://wmsc.lcsc.com/wmsc/upload/file/pdf/v2/lcsc/2303141830_FH--Guangdong-Fenghua-Advanced-Tech-FHW1210IF1R0KST_C351247.pdf; ComponentLink2Description: JLCPCB Part URL; ComponentLink2URL: https://jlcpcb.com/partdetail/C351247; ComponentLink3Description: LCSC Part URL; ComponentLink3URL: https://lcsc.com/product-detail/Inductors-SMD_FH-Guangdong-Fenghua-Advanced-Tech-FH-Guangdong-Fenghua-Advanced-Tech-FHW1210IF1R0KST_C351247.html
footprint IND-1210 (1210 (3225M) Inductor)
pins: 1, 2